# Altium footprint library Zenite_Footprints.PcbLib: 26 footprints (part 2 of 2)
Each footprint in its own frame and in the unit in brackets; x right, y up, seen from the top. Pads: shape width x height; smd on the part's side, far side on the other; paste and mask are expansions set on the pad; w line width, h text height; cw(c..) or ccw(c..) is an arc to the next point about the centre after c.
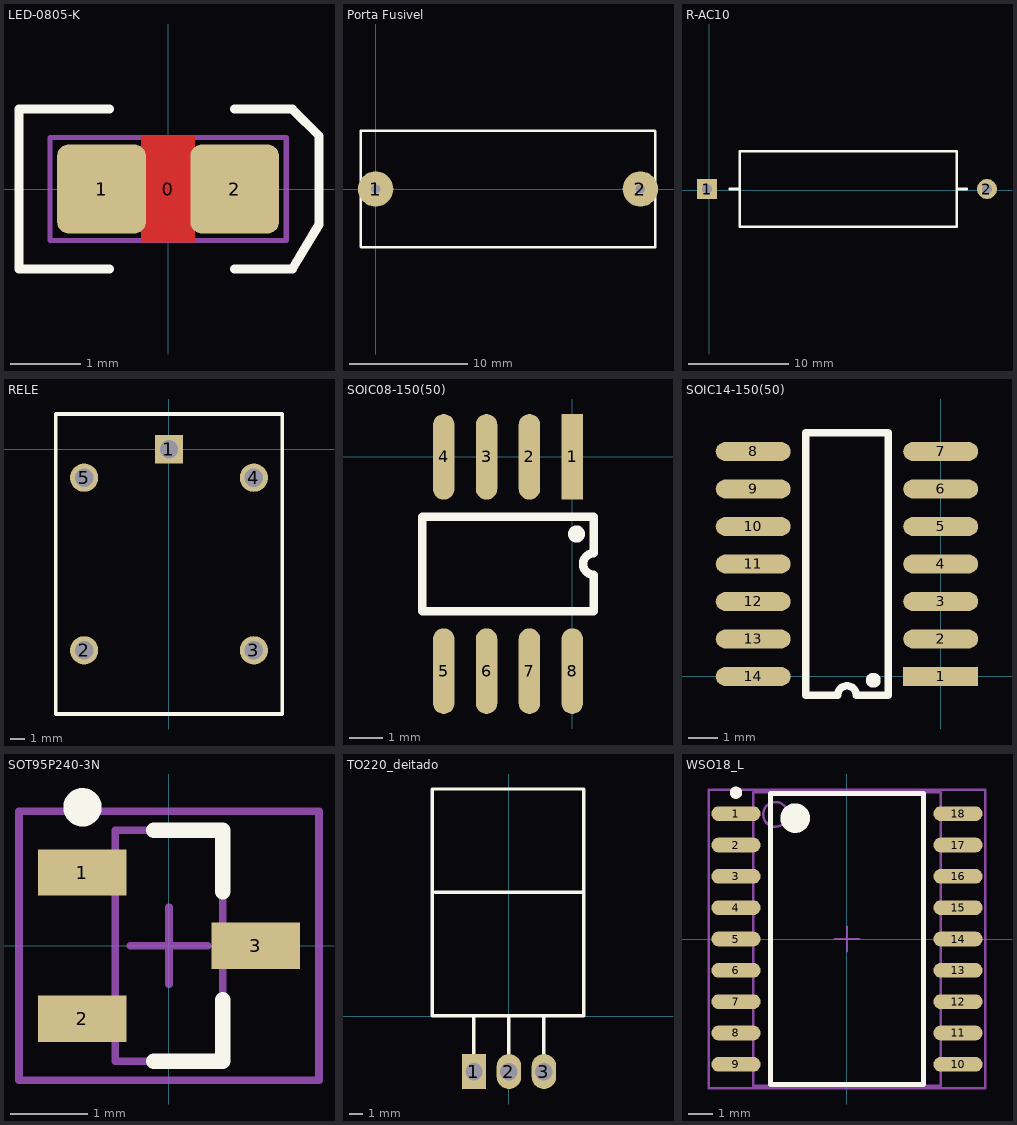
[diagram p1: the footprints below, top view; thin cyan lines are the x and y axes]

## LED-0805-K [mil]
height 31.5
pads (3):
  round 20 on Mech15: 0(0,0)
  rrect25% 50x50 smd: 1(-37.5,0) 2(37.5,0)
Top Layer:
  pour cut-out: -15,30 15,30 15,-30 -15,-30
Top Overlay:
  lines w5: -33,-45 -84,-45 -84,45 -33,45 ; 37.5,-45 70,-45 85,-20 85,30 70,45 37.5,45
Mechanical 13:
  lines w3: -66.5,-29 66.5,-29 66.5,29 -66.5,29 -66.5,-29
3D body: height 31.5, standoff 11.81, extent -28.65,-24.6 26.49,24.61
3D body: height 11.81, standoff 3.94, extent -39.37,-24.61 39.37,24.61
3D body: height 3.94, standoff 0, extent -39.37,-24.61 39.37,24.61
3D body: height 3.94, standoff 0, extent -11.81,-15.75 11.81,15.75

## PCBComponent_1 [mm]

## Porta Fusivel [mm]
pads (2):
  round 3 hole 0.8: 1(0,0) 2(22.5,0)
Top Overlay:
  lines w0.2: -1.27,-4.9 -1.27,4.9 ; -1.27,4.953 23.73,4.953 ; -1.23,-4.953 23.77,-4.953 ; 23.77,-4.9 23.77,4.9
3D body: height 12.6, standoff 7.4, extent 1.2,-2.7 21.2,2.5
3D body: height 12.5, standoff -3.5, extent -0.9,-4.8 23.5,4.6

## R-AC10 [mm] "Cemented Wirewound Resistor 10 W"
pads (2):
  rect 2x2 hole 1: 1(-0.216,0.127)
  round 2 hole 1: 2(27.72,0.127)
Top Overlay:
  lines w0.254: 2.038,0.127 3.038,0.127 ; 3.038,-3.623 3.038,0.127 ; 3.038,3.877 3.038,0.127 ; 3.048,-3.623 24.72,-3.623 24.72,0.127 ; 3.048,3.877 24.72,3.877 24.72,0.127 ; 25.72,0.127 24.72,0.127
3D body: height 9.01, standoff -3, extent -0.654,-2.794 28.086,3.206

## RELE [mm]
height 0.7
pads (5):
  rect 2x2 hole 1.3: 1(0,0)
  round 2 hole 1.3: 2(-6,-14.2) 3(6,-14.2) 4(6,-2) 5(-6,-2)
Top Overlay:
  lines w0.254: -8,-18.7 8,-18.7 8,2.5 -8,2.5 -8,-18.7
3D body: height 15.4, standoff 0.3, extent -8.007,-18.662 7.995,2.521
3D body: height 0.3, standoff 0, extent -6.298,-14.499 -5.7,-13.901
3D body: height 0.3, standoff 0, extent 5.702,-14.499 6.3,-13.901
3D body: height 0.3, standoff 0, extent 5.702,-2.299 6.3,-1.701
3D body: height 0.3, standoff 0, extent -0.298,-0.299 0.3,0.299
3D body: height 0.3, standoff 0, extent -6.298,-2.299 -5.7,-1.701

## SOIC08-150(50) [mm] "SOIC; 8 Leads; Row Spacing 3.81 mm; Pitch 1.27 mm; 3D Antonio Fagaldo"
height 1.778
pads (8):
  rect 0.635x2.54 smd: 1(0,0)
  oval 0.635x2.54 smd: 2(-1.27,0) 3(-2.54,0) 4(-3.81,0) 5(-3.81,-6.35) 6(-2.54,-6.35) 7(-1.27,-6.35) 8(0,-6.35)
Top Overlay:
  circle w0.254: c0.127,-2.286 r0.127
  lines w0.254: -4.445,-4.572 -4.445,-1.778 0.635,-1.778 0.635,-2.857 ccw(c0.635,-3.175) 0.635,-3.492 0.635,-4.572 -4.445,-4.572
3D body: height 1.76, standoff 0, extent -4.382,-6.243 0.508,-0.107

## SOIC14-150(50) [mm] "Plastic Small Outline 14 pinos"
height 1.778
pads (14):
  rect 2.54x0.635 smd: 1(0,0)
  oval 2.54x0.635 smd: 2(0,1.27) 3(0,2.54) 4(0,3.81) 5(0,5.08) 6(0,6.35) 7(0,7.62) 8(-6.35,7.62) 9(-6.35,6.35) 10(-6.35,5.08) 11(-6.35,3.81) 12(-6.35,2.54) 13(-6.35,1.27) 14(-6.35,0)
Top Overlay:
  circle w0.254: c-2.286,-0.127 r0.127
  lines w0.254: -4.572,-0.635 -4.572,8.255 -1.778,8.255 -1.778,-0.635 -2.857,-0.635 ccw(c-3.175,-0.635) -3.492,-0.635 -4.572,-0.635
3D body: height 1.75, standoff 0, extent -6.178,-0.565 -0.178,8.185

## SOT95P240-3N [mm] "SOT23, 3-Leads, Body 2.9x1.3mm, Pitch 0.95mm, Lead Span 2.4mm, IPC Medium Density"
height 1.14
pads (3):
  rect 1.15x0.6 smd: 1(-1.125,0.95) 2(-1.125,-0.95) 3(1.125,0)
Top Overlay:
  circle w0.25: c-1.125,1.8 r0.125
  lines w0.2: -0.2,-1.5 0.7,-1.5 0.7,-0.7 ; -0.2,1.5 0.7,1.5 0.7,0.7
Mechanical 13:
  lines w0.1: -0.7,-1.5 -0.7,1.5 0.7,1.5 0.7,-1.5 -0.7,-1.5
Mechanical 15:
  lines w0.1: -0.5,0 0.5,0 ; 0,-0.5 0,0.5 ; -1.95,-1.75 -1.95,1.75 1.95,1.75 1.95,-1.75 -1.95,-1.75
3D body: height 1.14, standoff 0, extent -0.7,-1.5 0.7,1.5

## TO220_deitado [mm]
height 4.7
pads (3):
  rect 1.778x2.54 hole 1.27: 1(-2.54,-4)
  oval 1.778x2.54 hole 1.27: 2(0,-4) 3(2.54,-4)
Top Overlay:
  lines w0.254: -5.35,9 5.35,9 ; -2.54,-3.945 -2.54,0 ; 0,-3.945 0,0 ; 2.54,-3.945 2.54,0 ; 5.35,0.055 -5.588,0.055 -5.588,16.51 5.445,16.51 5.445,0.055
3D body: height 4.71, standoff 0.02, extent -5.625,-13.268 5.588,16.062

## WSO18_L [mm] "18-Pin Small Outline Integrated Circuit 1.27 mm Pitch, IPC High Density"
height 2.65
pads (18):
  oval 2x0.6 smd: 1(-4.5,5.08) 2(-4.5,3.81) 3(-4.5,2.54) 4(-4.5,1.27) 5(-4.5,0) 6(-4.5,-1.27) 7(-4.5,-2.54) 8(-4.5,-3.81) 9(-4.5,-5.08) 10(4.5,-5.08) 11(4.5,-3.81) 12(4.5,-2.54) 13(4.5,-1.27) 14(4.5,0) 15(4.5,1.27) 16(4.5,2.54) 17(4.5,3.81) 18(4.5,5.08)
Top Overlay:
  circle w0.6: c-2.1,4.9 r0.3
  circle w0.25: c-4.5,5.93 r0.125
  lines w0.2: -3.1,-5.9 3.1,-5.9 3.1,5.9 -3.1,5.9 -3.1,-5.9
Mechanical 13:
  circle w0.1: c-2.9,5.05 r0.5
  lines w0.1: -3.8,-5.95 3.8,-5.95 3.8,5.95 -3.8,5.95 -3.8,-5.95
Mechanical 15:
  lines w0.1: -0.5,0 0.5,0 ; 0,-0.5 0,0.5 ; -5.6,-6.05 5.6,-6.05 5.6,6.05 -5.6,6.05 -5.6,-6.05
3D body: height 2.82, standoff 0, extent -5.207,-5.867 5.189,5.883